# EAGLE library part LVL-CONVERTER (library Untitled)
Description: If you’ve ever tried to connect a 3.3V device to a 5V system, you know what a challenge it can be. The SparkFun bi-directional logic level converter is a small device that safely steps down 5V signals to 3.3V AND steps up 3.3V to 5V at the same time. This level converter also works with 2.8V and 1.8V devices. What really separates this Logic level converter from our previous versions is that you can successfully set your high and low voltages and step up and down between them safely on the same channel. Each level converter has the capability of converting 4 pins on the high side to 4 pins on the low side with two inputs and two outputs provided for each side. The level converter is very easy to use. The board needs to be powered from the two voltages sources (high voltage and low voltage) that your system is using. High voltage (5V for example) to the ‘HV’ pin, low voltage (3.3V for example) to ‘LV’, and ground from the system to the ‘GND’ pin. Dimensions: 0.63 x 0.52" (16.05 x 13.33mm)
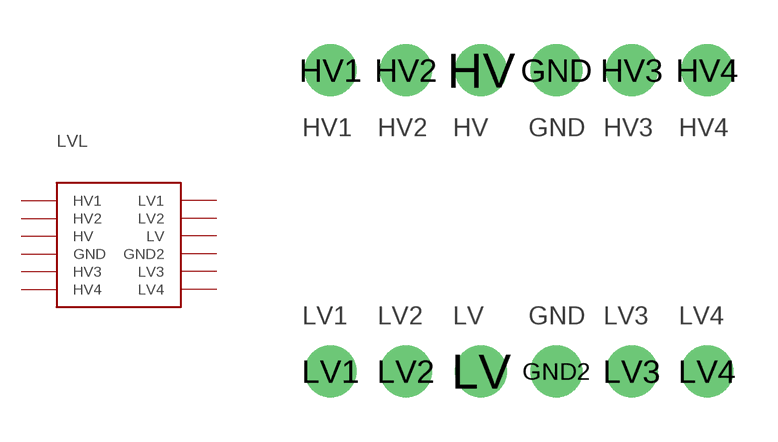
[diagram p0: symbol with the pads of LVL-CONVERTER; footprint LVL-CONVERTER]

Designator prefix LVL

## LVL-CONVERTER  [LVL-CONVERTER]
GND  GND
GND2  GND2
HV  HV
HV1  HV1
HV2  HV2
HV3  HV3
HV4  HV4
LV  LV
LV1  LV1
LV2  LV2
LV3  LV3
LV4  LV4

## Footprint LVL-CONVERTER (pad centres in mm)
drill 0.8 pad 1.753: GND 1.27,5.08; GND2 1.27,-5.08; HV -1.27,5.08; HV1 -6.35,5.08; HV2 -3.81,5.08; HV3 3.81,5.08; HV4 6.35,5.08; LV -1.27,-5.08; LV1 -6.35,-5.08; LV2 -3.81,-5.08; LV3 3.81,-5.08; LV4 6.35,-5.08